# Altium footprint library KingBright 1-Digit 7-Segment Through-Hole LED Display.PcbLib: 1 footprints
Each footprint in its own frame and in the unit in brackets; x right, y up, seen from the top. Pads: shape width x height; smd on the part's side, far side on the other; paste and mask are expansions set on the pad; w line width, h text height; cw(c..) or ccw(c..) is an arc to the next point about the centre after c.
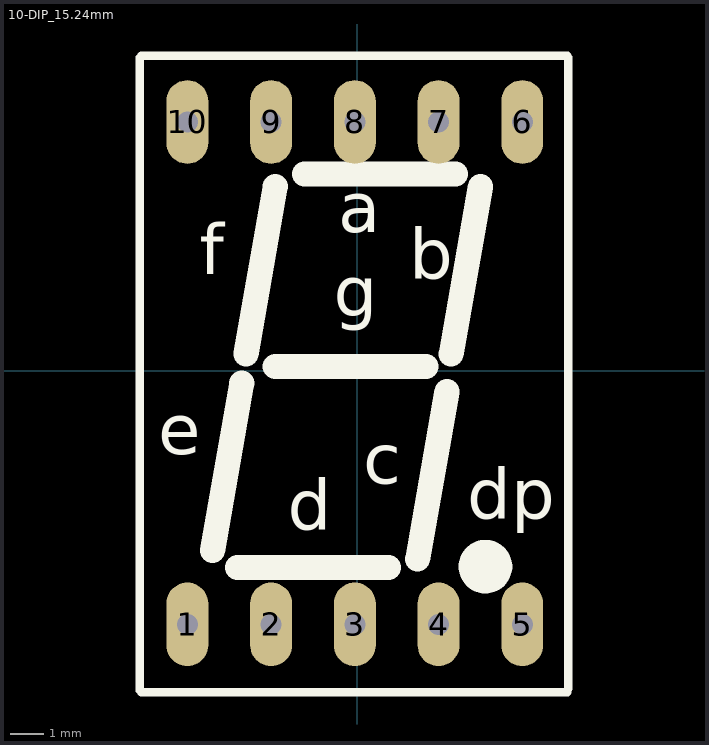
[diagram p0: the footprint, top view; thin cyan lines are the x and y axes]

## 10-DIP_15.24mm [mil] "DIP 10-Pin, Body 19.05 x 12.70mm, Pitch(V) 15.24mm, Pitch(H) 2.54mm"
pads (10):
  oval 50x100 hole 25: 1(-203,-303) 2(-103,-303) 3(-3,-303) 4(97,-303) 5(197,-303) 6(197,297) 7(97,297) 8(-3,297) 9(-103,297) 10(-203,297)
Top Overlay:
  circle w40: c153,-234 r12
  lines w10: -260,-382 -260,374 ; -258,-384 251,-384 ; -258,376 251,376 ; 252,-380 252,374
  lines w30: -173,-215 -138,-15 ; -143,-235 37,-235 ; -133,20 -98,220 ; -98,5 82,5 ; -63,235 117,235 ; 72,-225 107,-25 ; 112,20 147,220
  text "f" at -188,115 h60
  text "b" at 62,110 h60
  text "g" at -28,65 h60
  text "a" at -23,165 h60
  text "d" at -83,-190 h60
  text "e" at -238,-100 h60
  text "dp" at 131,-177 h60
  text "c" at 7,-135 h60